# EAGLE library part MC34063 (library MOTOROLA)
DC-DC-Converter
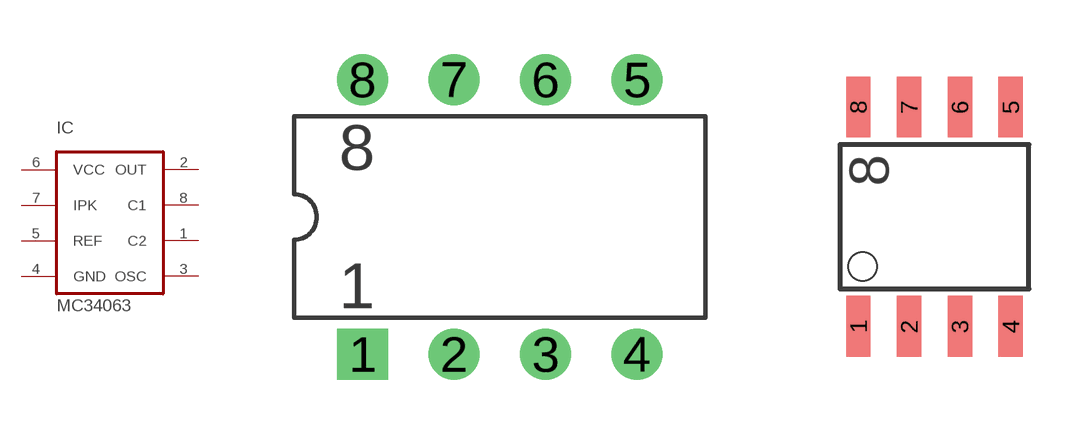
[diagram p51: symbol with the pads of DIL08; footprints DIL08, SO-8]

Designator prefix IC

## MC34063  [DIL08]
1  C2
2  OUT
3  OSC
4  GND
5  REF
6  VCC
7  IPK
8  C1

## MC34063SO-8  [SO-8]
Pads as for DIL08

## Footprint DIL08 (pad centres in mm)
drill 0.813 pad 1.422 square: 1 -3.81,-3.81
drill 0.813 pad 1.422 round: 2 -1.27,-3.81; 3 1.27,-3.81; 4 3.81,-3.81; 5 3.81,3.81; 6 1.27,3.81; 7 -1.27,3.81; 8 -3.81,3.81

## Footprint SO-8 (pad centres in mm)
smd 0.61 x 1.524: 1 -1.27,-2.743; 2 0,-2.743; 3 1.27,-2.743; 4 2.54,-2.743; 5 2.54,2.743; 6 1.27,2.743; 7 0,2.743; 8 -1.27,2.743